# Altium footprint library iLabLogos.PcbLib: 5 footprints
Each footprint in its own frame and in the unit in brackets; x right, y up, seen from the top. Pads: shape width x height; smd on the part's side, far side on the other; paste and mask are expansions set on the pad; w line width, h text height; cw(c..) or ccw(c..) is an arc to the next point about the centre after c.
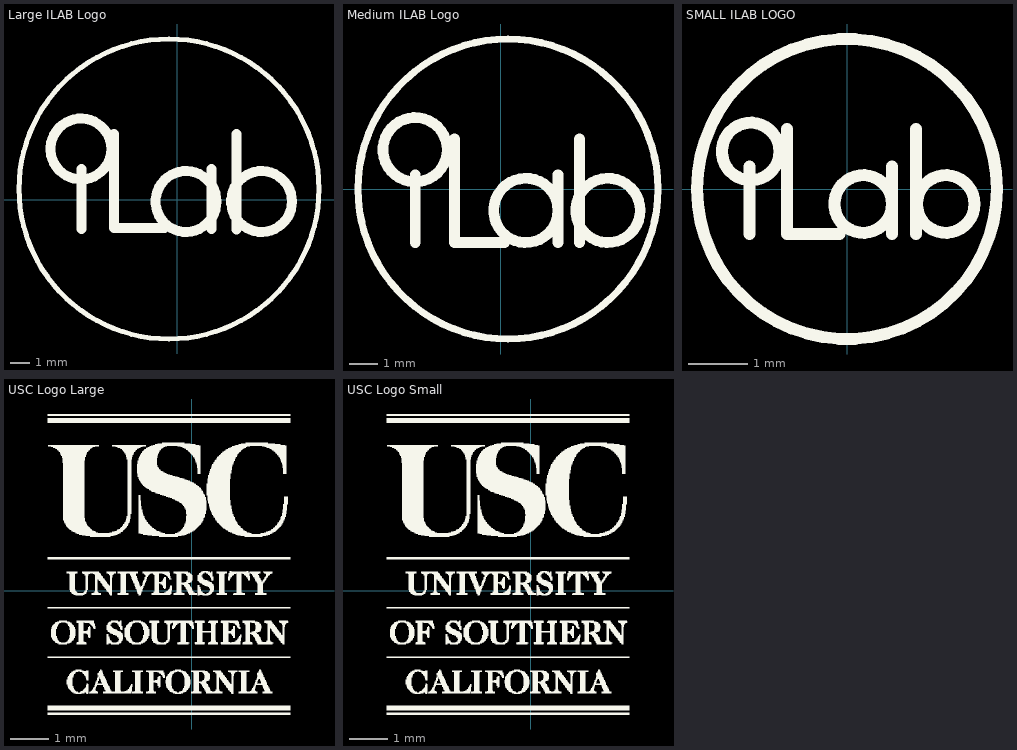
[diagram p0: the footprints below, top view; thin cyan lines are the x and y axes]

## Large ILAB Logo [mm]
Top Overlay:
  circle w0.508: c-4.898,2.565 r1.545
  circle w0.508: c0.436,-0.102 r1.545
  circle w0.508: c4.272,-0.102 r1.545
  circle w0.254: c-0.429,0.533 r7.617
  lines w0.508: -4.877,-1.499 -4.877,1.549 ; -3.226,3.327 -3.226,-1.448 -0.66,-1.448 ; 1.727,-1.499 1.727,1.549 ; 2.997,-1.524 2.997,3.327

## Medium ILAB Logo [mm]
Top Overlay:
  circle w0.254: c0.254,0 r5.334
  circle w0.381: c-3.048,1.397 r1.143
  circle w0.381: c0.889,-0.762 r1.143
  circle w0.381: c3.81,-0.762 r1.143
  lines w0.381: -3.048,-1.905 -3.048,0.508 ; -1.651,1.778 -1.651,-1.905 0.127,-1.905 ; 2.032,-1.905 2.032,0.508 ; 2.794,-1.905 2.794,1.778

## SMALL ILAB LOGO [mm]
Top Overlay:
  circle w0.203: c1.672,-0.254 r0.487
  circle w0.203: c0.275,-0.254 r0.487
  circle w0.203: c-1.63,0.635 r0.487
  circle w0.203: c0,0 r2.54
  lines w0.203: -1.651,-0.762 -1.651,0.381 ; -1.016,1.016 -1.016,-0.762 -0.127,-0.762 ; 0.762,-0.762 0.762,0.381 ; 1.168,-0.762 1.168,1.016

## USC Logo Large [mm]
Top Overlay:
  drawing of 2499 lines, arcs and shapes, not listed

## USC Logo Small [mm]
Top Overlay:
  drawing of 2499 lines, arcs and shapes, not listed